# Altium schematic symbol library XTAL.SchLib: 6 symbols
Pins are listed as number, name and electrical type; pins without a type are passive.

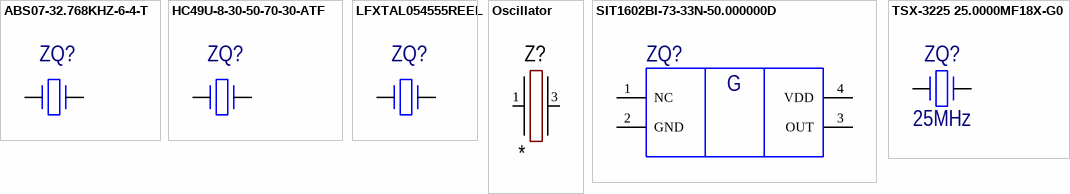
[diagram p0: symbols ABS07-32.768KHZ-6-4-T to TSX-3225 25.0000MF18X-G0]

## ABS07-32.768KHZ-6-4-T
designator ZQ?  (value not drawn)
CRYSTAL 32.7680KHZ 6PF SMD; Manufacturer: Abracon LLC; Manufacturer Part Number: ABS07-32.768KHZ-6-4-T; SMD: 1
footprint XTAL_ABS07 (DFN, 2-Leads, Body 1,50x3,20mm, Pitch 2,40mm, IPC Low Density)
pins: 1, 2

## HC49U-8-30-50-70-30-ATF
designator ZQ?  (value not drawn)
CRYSTAL 8.0MHZ 30PF SMD; Manufacturer: IQD Frequency Products; Manufacturer Part Number: HC49U-8-30-50-70-30-ATF; TH: 1
footprint XTAL1050X465X350
pins: 1, 2

## LFXTAL054555REEL
designator ZQ?  (value not drawn)
CRYSTAL 25.0MHZ 20PF SMD; Manufacturer: IQD Frequency Products; Manufacturer Part Number: LFXTAL054555REEL; SMD: 1
footprint XTAL_HC49/HSMX (SODFL, 2-Leads, Body 4,90x13,40mm, IPC Low Density)
pins: 1, 2

## Oscillator
designator Z?
Manufacturer: *; ComponentKind: *; HelpURL: *; Model: *; Value: *
footprint OSC: 2016
footprint OSC: 2520
footprint OSC: 3215
footprint OSC: 3225
footprint OSC: 5032
footprint OSC: 5032_6
footprint OSC: 5070
footprint OSC: ABM3 (Quartz)
footprint OSC: ABM7
footprint OSC: CVHD-950-122.880
footprint OSC: HC49S
footprint OSC: HC49SM
footprint OSC: KX-327L (Quartz Crystal KX – 327L)
footprint OSC: KX–9A (Quartz Crystal  KX–9A)
footprint OSC: S2V-T1S
pins: 1, 3

## SIT1602BI-73-33N-50.000000D
designator ZQ?  (value not drawn)
MEMS OSC XO 50.0000MHZ H/LV-CMOS; Manufacturer: SiTIME; Manufacturer Part Number: SIT1602BI-73-33N-50.000000D; SMD: 1
footprint DFN93P160X80-4M (DFN, 4-Leads, Body 2,00x1,60mm, Pitch 0,93mm, IPC Low Density)
pins: 1 NC, 2 GND, 3 OUT, 4 VDD
text: G

## TSX-3225 25.0000MF18X-G0
designator ZQ?, comment 25MHz
Crystal 25MHz ±10ppm (Tol) ±18ppm (Stability) 20pF FUND 40Ohm 4-Pin Mini-CSMD T/R; Manufacturer: Epson; Manufacturer Part Number: TSX-3225 25.0000MF18X-G0; ESR (Equivalent Series Resistance): 40R; SMD: 1; Parameter 1: *; Supplier 1: Digi-Key; RoHS: Yes; Category: Crystals; Pricing 1: 1=0,33000, 10=0,27500, 50=0,24760, 100=0,22000, 500=0,20900 (USD); Mount: Surface Mount; Case/Package: SMD/SMT; Min Operating Temperature: -40°C; Max Operating Temperature: 85°C; Packaging: Tape and Reel; Frequency: 25MHz; Load Capacitance: 20pF; Frequency Stability: 18ppm; Frequency Tolerance: 10ppm; Length: 0.126inch; Width: 0.098inch; Height: 0.024inch; ComponentLink1URL: https://support.epson.biz/td/api/doc_check.php?dl=brief_FA-238V_en.pdf&src-supplier=Digi-Key; ComponentLink1Description: https://support.epson.biz/td/api/doc_check.php?dl=brief_FA-238V_en.pdf&src-supplier=Digi-Key; ComponentLink2URL: https://www5.epsondevice.com/en/information/support/pdf/june_2018_psc_masterbook.pdf?src-supplier=Digi-Key; ComponentLink2Description: https://www5.epsondevice.com/en/information/support/pdf/june_2018_psc_masterbook.pdf?src-supplier=Digi-Key; ComponentLink3URL: https://support.epson.biz/td/api/doc_check.php?dl=brief_TSX-3225&amp;lang=en&src-supplier=Digi-Key; ComponentLink3Description: https://support.epson.biz/td/api/doc_check.php?dl=brief_TSX-3225&amp;lang=en&src-supplier=Digi-Key; Supplier Part Number 1: SER4375CT-ND
footprint OSC: 3225
pins: 1, 3